# Altium schematic symbol library 原理图库.SchLib: 32 symbols
Pins are listed as number, name and electrical type; pins without a type are passive.

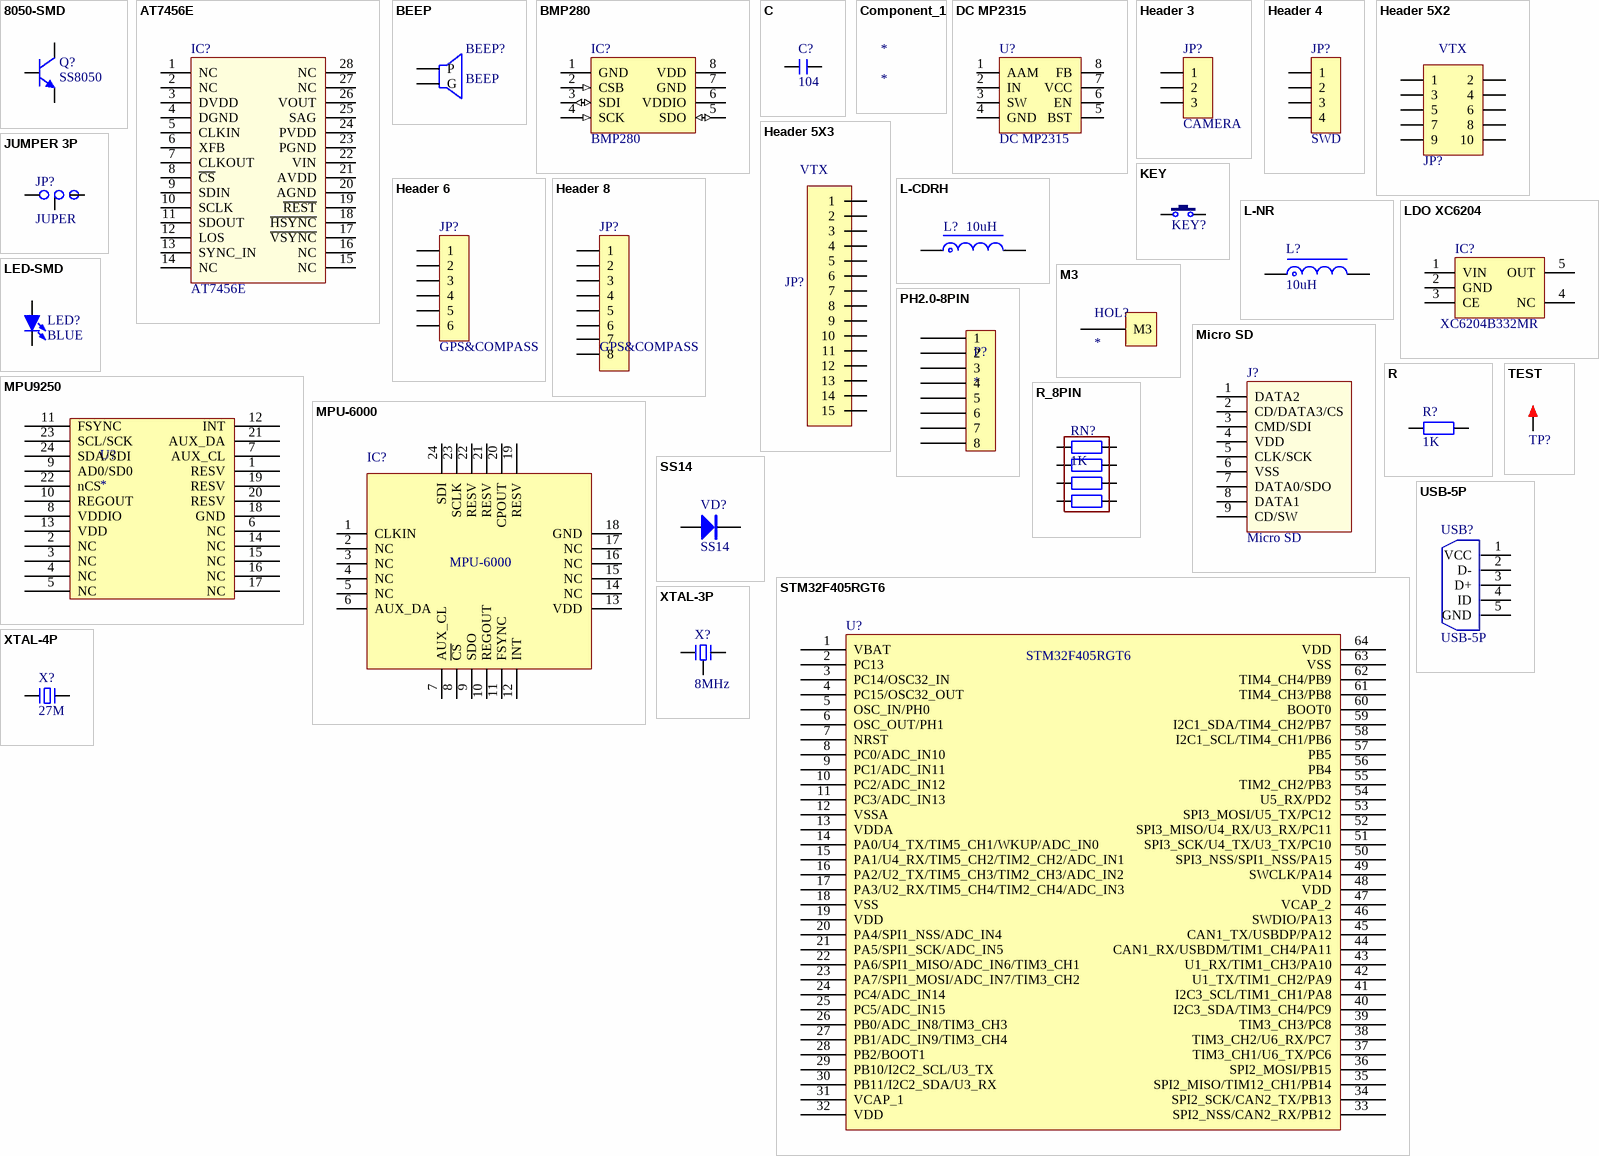
[diagram p0: symbols 8050-SMD to XTAL-4P]

## 8050-SMD
designator Q?, comment SS8050
高频放大-NPN型; 版权归属: 源创客; 属性: 40V 1.5A 1W 100MHZ; BOM名称: 高频放大-NPN型; 学习资源: www.ooocke.com
footprint SOT23-3N (3x1.3x1mm(长宽高))
footprint SOT23-3L (3x1.3x1mm(长宽高))
footprint SOT23-3M (3x1.3x1mm(长宽高))
pins: 1 B, 2 E, 3 C

## AT7456E
designator IC?
OSD芯片
footprint TSSOP28_L_E (9.8*6.4*1mm（长宽高）)
pins: 1 NC, 2 NC, 3 DVDD, 4 DGND, 5 CLKIN, 6 XFB, 7 CLKOUT, 8 ~{CS}, 9 SDIN, 10 SCLK, 11 SDOUT, 12 LOS, 13 SYNC_IN, 14 NC, 15 NC, 16 NC, 17 ~{VSYNC}, 18 ~{HSYNC}, 19 ~{REST}, 20 AGND, 21 AVDD, 22 VIN, 23 PGND, 24 PVDD, 25 SAG, 26 VOUT, 27 NC, 28 NC

## BEEP
designator BEEP?
footprint BUZZ0.25
footprint BELL-5 (PIN:5MM,SIZE:10MM)
pins: 1 P, 2 G

## BMP280
designator IC?
气压传感器
footprint BMP280 LGA8 (气压传感器)
pins: 1 GND, 2 CSB (in), 3 SDI (io), 4 SCK (in), 5 SDO (io), 6 VDDIO (power), 7 GND (power), 8 VDD (power)

## C
designator C?, comment 104
无极性贴片电容; 版权归属: 源创客; BOM名称: 无极性贴片电容; 学习资源: www.ooocke.com
footprint C 0201 (无极性贴片电容)
footprint C 0402 (无极性贴片电容)
footprint C 0603 (无极性贴片电容)
footprint C 0805 (无极性贴片电容)
footprint C 1206 (无极性贴片电容)
footprint C 1210 (无极性贴片电容)
footprint C 1808 (无极性贴片电容)
footprint C 1812 (无极性贴片电容)
footprint C 1825 (无极性贴片电容)
footprint C 2225 (无极性贴片电容)
pins: 1, 2

## Component_1
designator *

## DC MP2315
designator U?
DC降压芯片
footprint SOT23-8L (3x1.6x1.1mm(长宽高))
footprint SOT23-8M (3x1.6x1.1mm(长宽高))
footprint SOT23-8N (3x1.6x1.1mm(长宽高))
pins: 1 AAM, 2 IN, 3 SW, 4 GND, 5 BST, 6 EN, 7 VCC, 8 FB

## Header 3
designator JP?, comment CAMERA
3P接插件; 版权归属: 源创客; BOM名称: 3P接插件; 学习资源: www.ooocke.com
footprint HDR-1X3 (排针，3脚)
footprint HDR-1X3_M (排母，3脚)
footprint XH2.54-3P (接插件，3P)
footprint VH3.96-3P (接插件，25V/5A)
footprint XH2.54-3P_H (接插件，3P)
footprint HDR-1X3_H (弯脚排针，3脚)
footprint KF2510-3P (接插件/2A)
footprint HDR-1X3_Y (圆孔排母，3脚)
footprint VH3.96-3P_H (接插件，25V/5A)
footprint KF301-3P (可拼接端子/6A)
footprint KF2EDGK5.0-3P (直列插拔式端子)
footprint PH2.0 D-L-3P (接插件/1A)
footprint PH2.0 D-W-3P (接插件/1A)
footprint KF2EDGK5.0-3P_H (弯角插拔式端子)
footprint KF7620-3P (22.8*12*12mm(长宽高))
footprint KF350-3P (可拼接端子/10A)
footprint KF128-3.81-3P (螺钉式接线端子，脚距3.81mm)
footprint KF128-5.08-3P (螺钉式接线端子，脚距5.08mm)
footprint PH2.0 S-W-3P (长：10mm，宽：7.6mm，高：5.5mm)
footprint KF2EDGK5.08-3P (直列插拔式端子)
footprint KF2EDGK5.08-3P_H (弯角插拔式端子)
footprint HDR2.54 S-W-3P (3P卧式贴片排针2.54)
footprint HDR2.54 S-W-3P_M (3P卧式贴片排母2.54)
footprint MX 1.25-WS-3P (长：8.9mm，宽：4.2mm，高：3.4mm)
pins: 1, 2, 3

## Header 4
designator JP?, comment SWD
4P接插件; 版权归属: 源创客; BOM名称: 4P接插件; 学习资源: www.ooocke.com
footprint HC1.25-4PIN
pins: 1, 2, 3, 4

## Header 5X2
designator JP?, comment VTX
5*2P接插件; 版权归属: 源创客; BOM名称: 5*2P接插件; 学习资源: www.ooocke.com
footprint 2.54_2X5PIN
pins: 1, 2, 3, 4, 5, 6, 7, 8, 9, 10

## Header 5X3
designator JP?, comment VTX
5*3P接插件; BOM名称: 5*2P接插件; 版权归属: 源创客; 学习资源: www.ooocke.com
footprint 2.54_3X5RIN (3X16RA)
pins: 1, 2, 3, 4, 5, 6, 7, 8, 9, 10, 11, 12, 13, 14, 15

## Header 6
designator JP?, comment GPS&COMPASS
6P接插件; 版权归属: 源创客; BOM名称: 6P接插件; 学习资源: www.ooocke.com
footprint HC1.25-6PIN
pins: 1, 2, 3, 4, 5, 6

## Header 8
designator JP?, comment GPS&COMPASS
8P接插件; BOM名称: 6P接插件; 版权归属: 源创客; 学习资源: www.ooocke.com
footprint PH2.0-8PIN
pins: 1, 2, 3, 4, 5, 6, 7, 8

## JUMPER 3P
designator JP?, comment JUPER
三点焊盘跳线
footprint JUMPER 3P (3点跳线)
pins: 1, 2, 3

## KEY
designator KEY?  (value not drawn)
按键; BOM名称: 3x6轻触开关; 版权归属: 源创客; 学习资源: www.ooocke.com
footprint TSW DIP-6*6*5 (6*6*5mm)
footprint TSW SMD-2S
footprint TSW 3*6*4.3-S-W (侧立贴片3*6*4.3)
footprint TSW 2*4*3.5-S-W (侧立贴片2*4*3.5)
pins: 1, 2

## L-CDRH
designator L?, comment 10uH
功率屏蔽电感; 版权归属: 源创客; BOM名称: 功率屏蔽电感; 学习资源: www.ooocke.com
footprint CDRH73 (7.3*7.3*3.4mm（长宽高）)
footprint CDRH74 (7.3*7.3*4.5mm（长宽高）)
footprint CDRH124 (12*12*4.5mm（长宽高）)
footprint CDRH125 (12*12*5mm（长宽高）)
footprint CDRH127 (12*12*8mm（长宽高）)
footprint CDRH129 (12*12*9.5mm（长宽高）)
footprint L-SMD-0420 (一体化成型电感 4*4.5*2mm（长宽高）)
footprint L-SMD-0630 (一体化成型电感 6.6*7.6*3mm（长宽高）)
pins: 1, 2

## L-NR
designator L?, comment 10uH
NR功率电感; 版权归属: 源创客; BOM名称: NR功率电感; 学习资源: www.ooocke.com
footprint NR3015 (3mm*3mm*1.5mm(长*宽*高）)
footprint NR2520 (2.5mm*2.0mm*1.2mm(长*宽*高）)
pins: 1, 2

## LDO XC6204
designator IC?, comment XC6204B332MR
LDO; BOM名称: 稳压芯片; 版权归属: 源创客; 学习资源: www.ooocke.com
footprint SOT23-5L (3x1.6x1.1mm(长宽高))
footprint SOT23-5M (3x1.6x1.1mm(长宽高))
footprint SOT23-5N (3x1.6x1.1mm(长宽高))
pins: 1 VIN, 2 GND, 3 CE, 4 NC, 5 OUT

## LED-SMD
designator LED?, comment BLUE
贴片LED; 版权归属: 源创客; BOM名称: 贴片LED; 学习资源: www.ooocke.com
footprint LED 0603W (白色0603LED)
footprint LED 0603R (红色0603LED)
footprint LED 0603B (蓝色0603LED)
footprint LED 0603G (绿色0603LED)
footprint LED 0603Y (黄色0603LED)
footprint LED 0805G (绿色0805LED)
footprint LED 0805R (红色0805LED)
footprint LED 0805B (蓝色0805LED)
footprint LED 0805Y (黄色0805LED)
footprint LED 3528 (白色3528LED)
footprint LED 1206G (绿色1206LED)
footprint LED 5730-V (紫色5730LED)
footprint LED 1206Y (黄色1206LED)
footprint LED 0805W (白色0805LED)
footprint LED 1206B (蓝色1206LED)
footprint LED 1206W (白色1206LED)
footprint LED 1206R (红色1206LED)
pins: 1 A, 2 K

## M3
designator HOL?
定位孔
footprint M3
pins: 1 M3

## Micro SD
designator J?
Micro SD卡; 版权归属: 源创客; BOM名称: Micro SD卡; 学习资源: www.ooocke.com
footprint Micro SD
pins: 1 DATA2, 2 CD/DATA3/CS, 3 CMD/SDI, 4 VDD, 5 CLK/SCK, 6 VSS, 7 DATA0/SDO, 8 DATA1, 9 CD/SW

## MPU9250
designator U?
footprint QFN24-0.4
pins: 1 RESV, 2 NC, 3 NC, 4 NC, 5 NC, 6 NC, 7 AUX_CL, 8 VDDIO, 9 AD0/SD0, 10 REGOUT, 11 FSYNC, 12 INT, 13 VDD, 14 NC, 15 NC, 16 NC, 17 NC, 18 GND, 19 RESV, 20 RESV, 21 AUX_DA, 22 nCS, 23 SCL/SCK, 24 SDA/SDI

## MPU-6000
designator IC?
传感器; ComponentLink1Description: 供应商链接; ComponentLink1URL: http://www.szlcsc.com/product/details_24852.html; Package: QFN-24_4x4x05P; Supplier: LC; SuppliersPartNumber: C24112
footprint QFN24 4X4_N (QFN, 24-Leads, Body 4.1x4.1mm (max), Pitch 0.50mm, IPC Medium Density)
pins: 1 CLKIN, 2 NC, 3 NC, 4 NC, 5 NC, 6 AUX_DA, 7 AUX_CL, 8 ~{CS}, 9 SDO, 10 REGOUT, 11 FSYNC, 12 INT, 13 VDD, 14 NC, 15 NC, 16 NC, 17 NC, 18 GND, 19 RESV, 20 CPOUT, 21 RESV, 22 RESV, 23 SCLK, 24 SDI

## PH2.0-8PIN
designator P?
插件
footprint HEADER10-2.0MM
pins: 1, 2, 3, 4, 5, 6, 7, 8

## R
designator R?, comment 1K
贴片电阻; 版权归属: 源创客; BOM名称: 贴片电阻; 学习资源: www.ooocke.com
footprint R 0201 (1/20W贴片电阻)
footprint R 0201-HP (1/20W高精度贴片电阻)
footprint R 0402 (1/16W贴片电阻)
footprint R 0402-HP (1/16W高精度贴片电阻)
footprint R 0603 (1/10W贴片电阻)
footprint R 0603-HP (1/10W高精度贴片电阻)
footprint R 0805 (1/8W贴片电阻)
footprint R 0805-HP (1/8W高精度贴片电阻)
footprint R 1206 (1/4W贴片电阻)
footprint R 1206-HP (1/4W高精度贴片电阻)
footprint R 1210 (1/3W贴片电阻)
footprint R 1210-HP (1/3W高精度贴片电阻)
footprint R 1812 (1/2W贴片电阻)
footprint R 1812-HP (1/2W高精度贴片电阻)
footprint R 2010 (3/4W贴片电阻)
footprint R 2010-HP (3/4W高精度贴片电阻)
footprint R 2512 (1W贴片电阻)
footprint R 2512-HP (1W高精度贴片电阻)
pins: 1, 2

## R_8PIN
designator RN?, comment 1K
贴片排阻; BOM名称: 贴片电阻; 版权归属: 源创客; 学习资源: www.ooocke.com
footprint RES_P_8PIN
pins: 1, 2, 3, 4, 5, 6, 7, 8

## SS14
designator VD?
肖特基二极管; 版权归属: 源创客; 属性: 40V/1A; BOM名称: 肖特基二极管; 学习资源: www.ooocke.com
footprint SMA (4.5x2.6*2.2mm（长宽高，不包括引脚）)
pins: 1 A, 2 K

## STM32F405RGT6
designator U?
Flaah:256/RAM:48/IO:51
footprint LQFP64 10X10_L (64脚，体宽10x10mm，脚距0.5mm)
footprint LQFP64 10X10_M (64脚，体宽10x10mm，脚距0.5mm)
footprint LQFP64 10X10_N (64脚，体宽10x10mm，脚距0.5mm)
pins: 1 VBAT, 2 PC13, 3 PC14/OSC32_IN, 4 PC15/OSC32_OUT, 5 OSC_IN/PH0, 6 OSC_OUT/PH1, 7 NRST, 8 PC0/ADC_IN10, 9 PC1/ADC_IN11, 10 PC2/ADC_IN12, 11 PC3/ADC_IN13, 12 VSSA, 13 VDDA, 14 PA0/U4_TX/TIM5_CH1/WKUP/ADC_IN0, 15 PA1/U4_RX/TIM5_CH2/TIM2_CH2/ADC_IN1, 16 PA2/U2_TX/TIM5_CH3/TIM2_CH3/ADC_IN2, 17 PA3/U2_RX/TIM5_CH4/TIM2_CH4/ADC_IN3, 18 VSS, 19 VDD, 20 PA4/SPI1_NSS/ADC_IN4, 21 PA5/SPI1_SCK/ADC_IN5, 22 PA6/SPI1_MISO/ADC_IN6/TIM3_CH1, 23 PA7/SPI1_MOSI/ADC_IN7/TIM3_CH2, 24 PC4/ADC_IN14, 25 PC5/ADC_IN15, 26 PB0/ADC_IN8/TIM3_CH3, 27 PB1/ADC_IN9/TIM3_CH4, 28 PB2/BOOT1, 29 PB10/I2C2_SCL/U3_TX, 30 PB11/I2C2_SDA/U3_RX, 31 VCAP_1, 32 VDD, 33 SPI2_NSS/CAN2_RX/PB12, 34 SPI2_SCK/CAN2_TX/PB13, 35 SPI2_MISO/TIM12_CH1/PB14, 36 SPI2_MOSI/PB15, 37 TIM3_CH1/U6_TX/PC6, 38 TIM3_CH2/U6_RX/PC7, 39 TIM3_CH3/PC8, 40 I2C3_SDA/TIM3_CH4/PC9, 41 I2C3_SCL/TIM1_CH1/PA8, 42 U1_TX/TIM1_CH2/PA9, 43 U1_RX/TIM1_CH3/PA10, 44 CAN1_RX/USBDM/TIM1_CH4/PA11, 45 CAN1_TX/USBDP/PA12, 46 SWDIO/PA13, 47 VCAP_2, 48 VDD, 49 SWCLK/PA14, 50 SPI3_NSS/SPI1_NSS/PA15, 51 SPI3_SCK/U4_TX/U3_TX/PC10, 52 SPI3_MISO/U4_RX/U3_RX/PC11, 53 SPI3_MOSI/U5_TX/PC12, 54 U5_RX/PD2, 55 TIM2_CH2/PB3, 56 PB4, 57 PB5, 58 I2C1_SCL/TIM4_CH1/PB6, 59 I2C1_SDA/TIM4_CH2/PB7, 60 BOOT0, 61 TIM4_CH3/PB8, 62 TIM4_CH4/PB9, 63 VSS, 64 VDD

## TEST
designator TP?  (value not drawn)
测试点; 版权归属: 源创客; BOM名称: 测试点; 学习资源: www.ooocke.com
footprint TEST 1 (测试点1mm)
footprint TEST 1.6 (测试点1.6mm)
footprint TEST 1.4 (测试点1.4mm)
footprint TEST 1.8 (测试点1.8mm)
footprint TEST 1.2 (测试点1.2mm)
footprint TEST PAD 1.8 (测试点2.0mm)
pins: 1

## USB-5P
designator USB?
微型USB母座; 版权归属: 源创客; BOM名称: 微型USB母座; 学习资源: www.ooocke.com
footprint USB-MICRO_A (micro型USB ，5.9*8.2*2.5mm)
footprint USB-MICRO_B (micro型USB ，5.7*7.8*2.5mm)
footprint USB-MINI-A (MINI型USB，7.9*7.5*4.1mm)
footprint USB-MICRO_C (micro型USB ，5.7*7.8*2.5mm)
footprint USB-MICRO_D (micro型USB ，5.9*8.2*2.5mm)
footprint USB-MICRO_E (micro型USB ，5.9*8.2*2.5mm)
pins: 1 VCC, 2 D-, 3 D+, 4 ID, 5 GND

## XTAL-3P
designator X?, comment 8MHz
3脚无源晶振; BOM名称: 2脚晶振; 版权归属: 源创客; 学习资源: www.ooocke.com
footprint XTAL-3215-3P
pins: 1, 2, 3

## XTAL-4P
designator X?, comment 27M
4脚无源晶振; BOM名称: 4脚晶振; 版权归属: 源创客; 学习资源: www.ooocke.com
footprint XTAL-5032
footprint XTAL-3225
pins: 1, 3